# EAGLE library part LAN9512-JZX (library External)
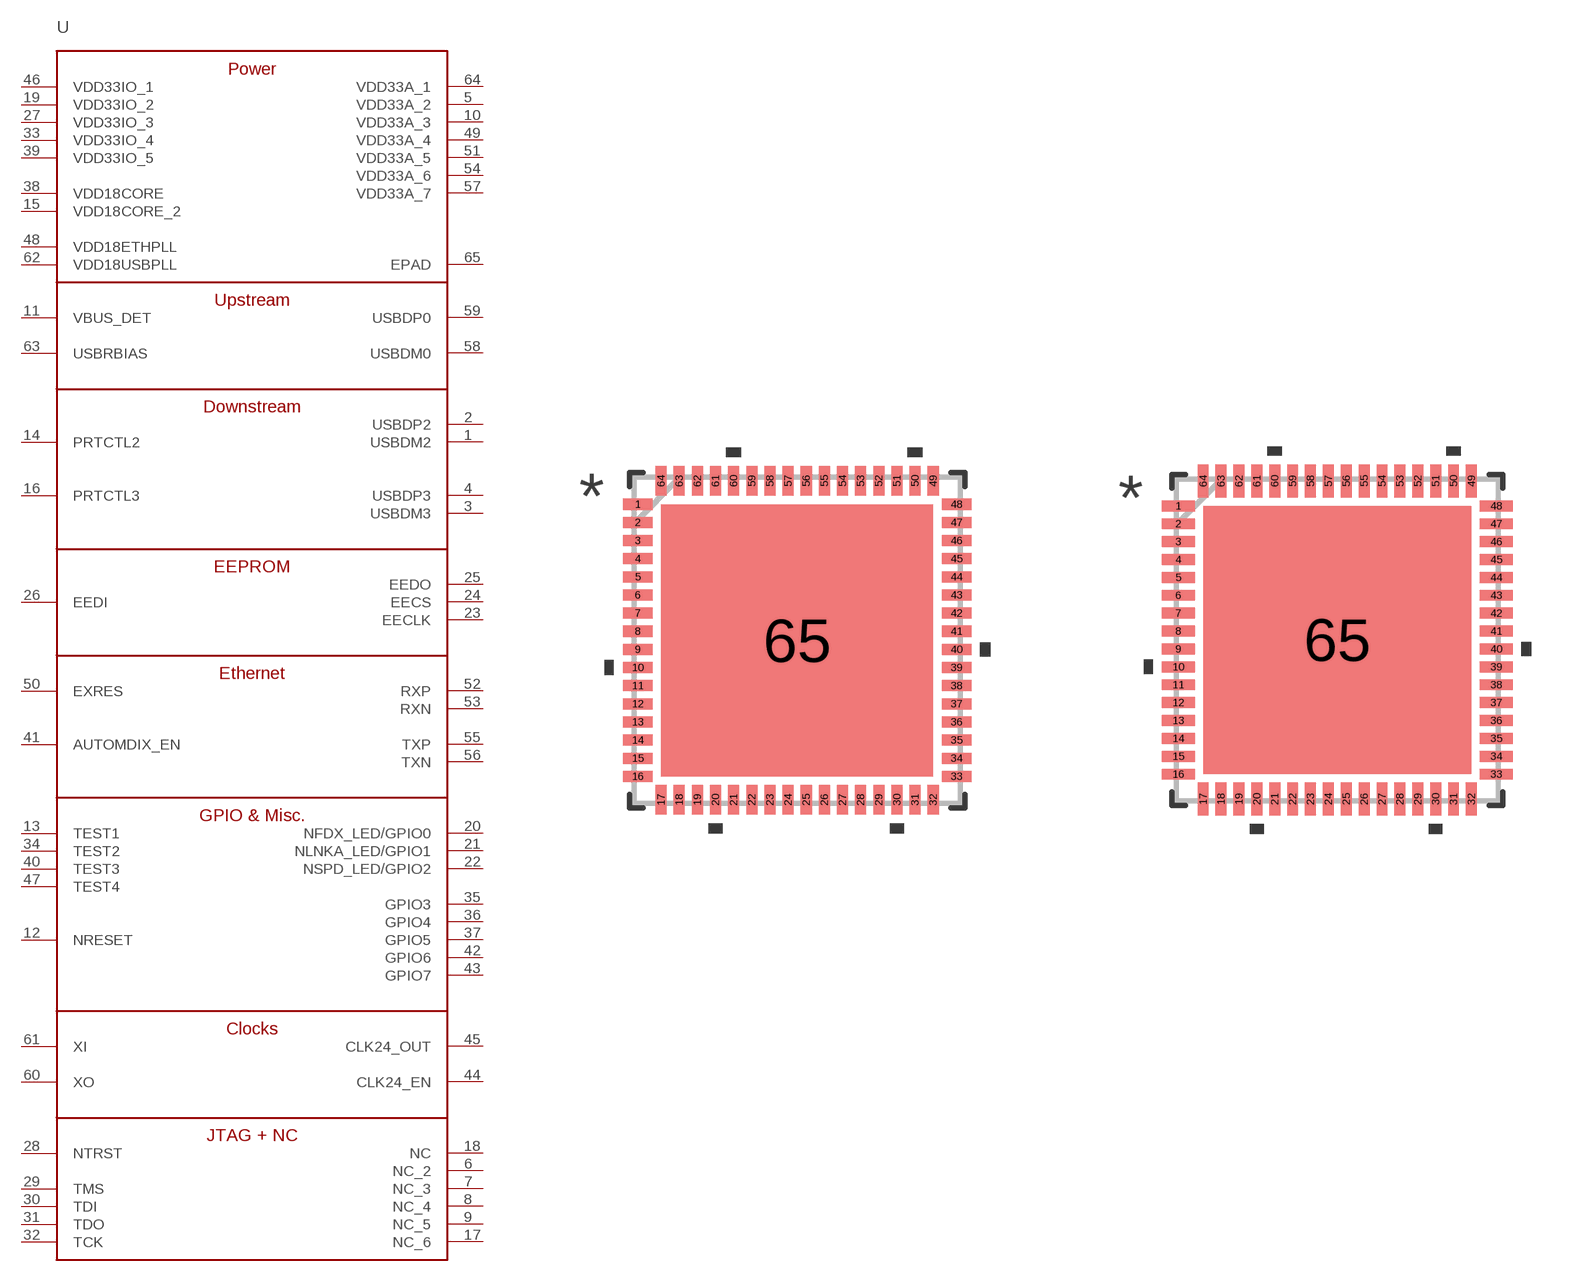
[diagram p0: symbol with the pads of QFN64_9X9MC; footprints QFN64_9X9MC, QFN64_9X9MC-M]

Designator prefix U

## LAN9512-JZX (MANUFACTURER_PART_NUMBER: LAN9512JZX; VENDOR: Microchip)  [QFN64_9X9MC]
1  USBDM2
2  USBDP2
3  USBDM3
4  USBDP3
5  VDD33A_2  pwr
6  NC_2  nc
7  NC_3  nc
8  NC_4  nc
9  NC_5  nc
10  VDD33A_3  pwr
11  VBUS_DET  pwr
12  NRESET  in
13  TEST1  pas
14  PRTCTL2
15  VDD18CORE_2  pwr
16  PRTCTL3
17  NC_6  nc
18  NC  nc
19  VDD33IO_2  pwr
20  NFDX_LED/GPIO0
21  NLNKA_LED/GPIO1
22  NSPD_LED/GPIO2
23  EECLK  out
24  EECS  out
25  EEDO  out
26  EEDI  in
27  VDD33IO_3  pwr
28  NTRST  in
29  TMS  in
30  TDI  in
31  TDO  out
32  TCK  in
33  VDD33IO_4  pwr
34  TEST2  pas
35  GPIO3
36  GPIO4
37  GPIO5
38  VDD18CORE  pwr
39  VDD33IO_5  pwr
40  TEST3  pas
41  AUTOMDIX_EN  in
42  GPIO6
43  GPIO7
44  CLK24_EN  in
45  CLK24_OUT  out
46  VDD33IO_1  pwr
47  TEST4  pas
48  VDD18ETHPLL  pwr
49  VDD33A_4  pwr
50  EXRES  in
51  VDD33A_5  pwr
52  RXP
53  RXN
54  VDD33A_6  pwr
55  TXP
56  TXN
57  VDD33A_7  pwr
58  USBDM0
59  USBDP0
60  XO  out
61  XI  in
62  VDD18USBPLL  pwr
63  USBRBIAS  in
64  VDD33A_1  pwr
65  EPAD  pas

## LAN9512-JZXQFN64_9X9MC-M (MANUFACTURER_PART_NUMBER: LAN9512JZX; VENDOR: Microchip)  [QFN64_9X9MC-M]
Pads as for QFN64_9X9MC

## LAN9512-JZXQFN64_9X9MC-L (MANUFACTURER_PART_NUMBER: LAN9512JZX; VENDOR: Microchip)  [QFN64_9X9MC-L]
Pads as for QFN64_9X9MC

## Footprint QFN64_9X9MC (pad centres in mm)
smd 0.813 x 0.305: 1 -4.394,3.75; 2 -4.394,3.25; 3 -4.394,2.75; 4 -4.394,2.25; 5 -4.394,1.75; 6 -4.394,1.25; 7 -4.394,0.75; 8 -4.394,0.25; 9 -4.394,-0.25; 10 -4.394,-0.75; 11 -4.394,-1.25; 12 -4.394,-1.75; 13 -4.394,-2.25; 14 -4.394,-2.75; 15 -4.394,-3.25; 16 -4.394,-3.75; 33 4.394,-3.75; 34 4.394,-3.25; 35 4.394,-2.75; 36 4.394,-2.25; 37 4.394,-1.75; 38 4.394,-1.25; 39 4.394,-0.75; 40 4.394,-0.25; 41 4.394,0.25; 42 4.394,0.75; 43 4.394,1.25; 44 4.394,1.75; 45 4.394,2.25; 46 4.394,2.75; 47 4.394,3.25; 48 4.394,3.75
smd 0.305 x 0.813: 17 -3.75,-4.394; 18 -3.25,-4.394; 19 -2.75,-4.394; 20 -2.25,-4.394; 21 -1.75,-4.394; 22 -1.25,-4.394; 23 -0.75,-4.394; 24 -0.25,-4.394; 25 0.25,-4.394; 26 0.75,-4.394; 27 1.25,-4.394; 28 1.75,-4.394; 29 2.25,-4.394; 30 2.75,-4.394; 31 3.25,-4.394; 32 3.75,-4.394; 49 3.75,4.394; 50 3.25,4.394; 51 2.75,4.394; 52 2.25,4.394; 53 1.75,4.394; 54 1.25,4.394; 55 0.75,4.394; 56 0.25,4.394; 57 -0.25,4.394; 58 -0.75,4.394; 59 -1.25,4.394; 60 -1.75,4.394; 61 -2.25,4.394; 62 -2.75,4.394; 63 -3.25,4.394; 64 -3.75,4.394
smd 7.493 x 7.493: 65 0,0

## Footprint QFN64_9X9MC-M (pad centres in mm)
smd 0.914 x 0.305: 1 -4.445,3.75; 2 -4.445,3.25; 3 -4.445,2.75; 4 -4.445,2.25; 5 -4.445,1.75; 6 -4.445,1.25; 7 -4.445,0.75; 8 -4.445,0.25; 9 -4.445,-0.25; 10 -4.445,-0.75; 11 -4.445,-1.25; 12 -4.445,-1.75; 13 -4.445,-2.25; 14 -4.445,-2.75; 15 -4.445,-3.25; 16 -4.445,-3.75; 33 4.445,-3.75; 34 4.445,-3.25; 35 4.445,-2.75; 36 4.445,-2.25; 37 4.445,-1.75; 38 4.445,-1.25; 39 4.445,-0.75; 40 4.445,-0.25; 41 4.445,0.25; 42 4.445,0.75; 43 4.445,1.25; 44 4.445,1.75; 45 4.445,2.25; 46 4.445,2.75; 47 4.445,3.25; 48 4.445,3.75
smd 0.305 x 0.914: 17 -3.75,-4.445; 18 -3.25,-4.445; 19 -2.75,-4.445; 20 -2.25,-4.445; 21 -1.75,-4.445; 22 -1.25,-4.445; 23 -0.75,-4.445; 24 -0.25,-4.445; 25 0.25,-4.445; 26 0.75,-4.445; 27 1.25,-4.445; 28 1.75,-4.445; 29 2.25,-4.445; 30 2.75,-4.445; 31 3.25,-4.445; 32 3.75,-4.445; 49 3.75,4.445; 50 3.25,4.445; 51 2.75,4.445; 52 2.25,4.445; 53 1.75,4.445; 54 1.25,4.445; 55 0.75,4.445; 56 0.25,4.445; 57 -0.25,4.445; 58 -0.75,4.445; 59 -1.25,4.445; 60 -1.75,4.445; 61 -2.25,4.445; 62 -2.75,4.445; 63 -3.25,4.445; 64 -3.75,4.445
smd 7.493 x 7.493: 65 0,0

## Footprint QFN64_9X9MC-L (pad centres in mm)
smd 0.711 x 0.305: 1 -4.343,3.75; 2 -4.343,3.25; 3 -4.343,2.75; 4 -4.343,2.25; 5 -4.343,1.75; 6 -4.343,1.25; 7 -4.343,0.75; 8 -4.343,0.25; 9 -4.343,-0.25; 10 -4.343,-0.75; 11 -4.343,-1.25; 12 -4.343,-1.75; 13 -4.343,-2.25; 14 -4.343,-2.75; 15 -4.343,-3.25; 16 -4.343,-3.75; 33 4.343,-3.75; 34 4.343,-3.25; 35 4.343,-2.75; 36 4.343,-2.25; 37 4.343,-1.75; 38 4.343,-1.25; 39 4.343,-0.75; 40 4.343,-0.25; 41 4.343,0.25; 42 4.343,0.75; 43 4.343,1.25; 44 4.343,1.75; 45 4.343,2.25; 46 4.343,2.75; 47 4.343,3.25; 48 4.343,3.75
smd 0.305 x 0.711: 17 -3.75,-4.343; 18 -3.25,-4.343; 19 -2.75,-4.343; 20 -2.25,-4.343; 21 -1.75,-4.343; 22 -1.25,-4.343; 23 -0.75,-4.343; 24 -0.25,-4.343; 25 0.25,-4.343; 26 0.75,-4.343; 27 1.25,-4.343; 28 1.75,-4.343; 29 2.25,-4.343; 30 2.75,-4.343; 31 3.25,-4.343; 32 3.75,-4.343; 49 3.75,4.343; 50 3.25,4.343; 51 2.75,4.343; 52 2.25,4.343; 53 1.75,4.343; 54 1.25,4.343; 55 0.75,4.343; 56 0.25,4.343; 57 -0.25,4.343; 58 -0.75,4.343; 59 -1.25,4.343; 60 -1.75,4.343; 61 -2.25,4.343; 62 -2.75,4.343; 63 -3.25,4.343; 64 -3.75,4.343
smd 7.493 x 7.493: 65 0,0